# Altium schematic symbol library TPS79333.SchLib: 1 symbol
Pins are listed as number, name and electrical type; pins without a type are passive.

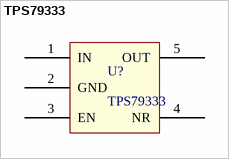
[diagram p0: symbol TPS79333]

## TPS79333
designator U?
ULTRALOW-NOISE, HIGH PSRR, FAST RF 200mA LOW-DROPOUT LINEAR
footprint TPS79333_SOT95P300X145-5N (ULTRALOW-NOISE, HIGH PSRR, FAST RF 200mA LOW-DROPOUT LINEAR)
pins: 1 IN, 2 GND, 3 EN, 4 NR, 5 OUT